# Altium footprint library Quartz Crystals.PcbLib: 53 footprints (part 2 of 4)
Each footprint in its own frame and in the unit in brackets; x right, y up, seen from the top. Pads: shape width x height; smd on the part's side, far side on the other; paste and mask are expansions set on the pad; w line width, h text height; cw(c..) or ccw(c..) is an arc to the next point about the centre after c.
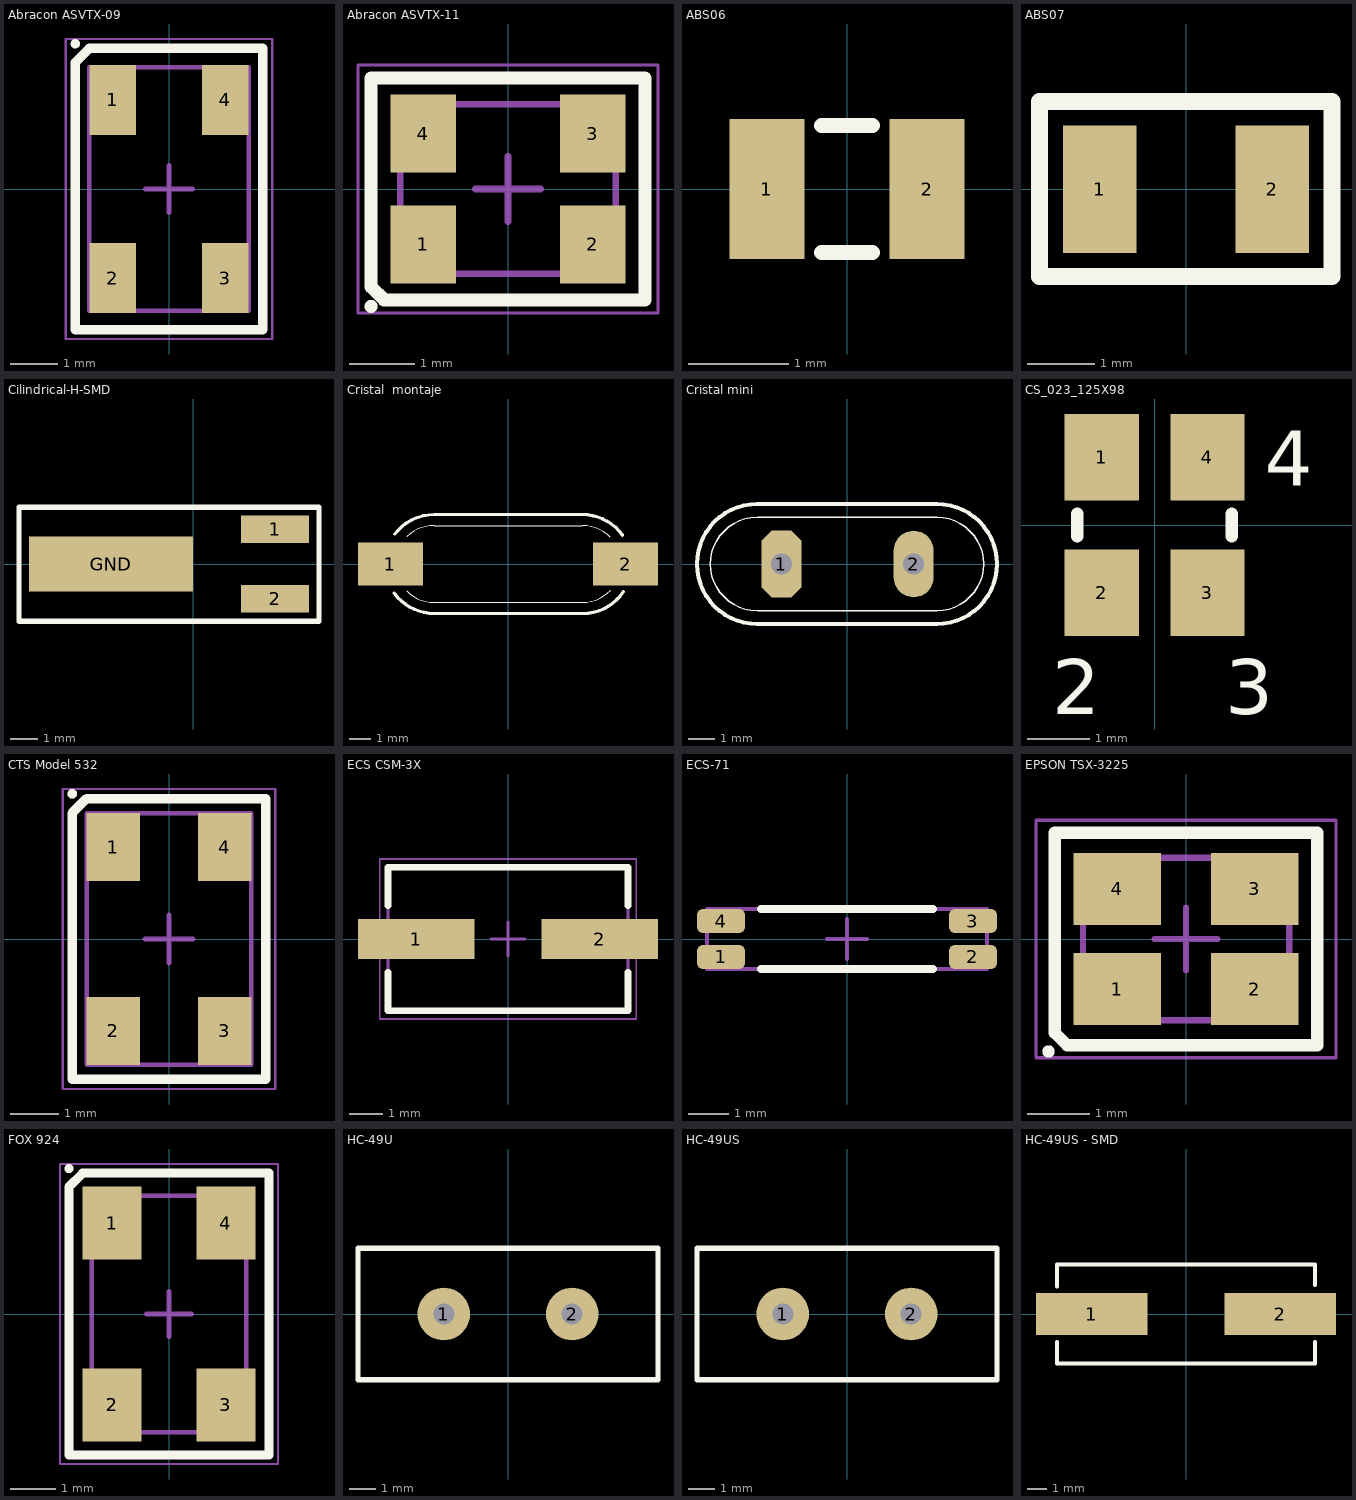
[diagram p1: the footprints below, top view; thin cyan lines are the x and y axes]

## Abracon ASVTX-09 [mm] "XO, 4-Leads, Body 5.00x3.20mm, Pitch 3.70mm, IPC Medium Density"
height 1.5
pads (4):
  rect 1x1.5 smd: 1(-1.2,1.9) 2(-1.2,-1.9) 3(1.2,-1.9) 4(1.2,1.9)
Top Overlay:
  circle w0.1: c-2,3.1 r0.05
  lines w0.2: -2,-3 2,-3 2,3 -1.7,3 -2,2.7 -2,-3
Mechanical 13:
  lines w0.1: -1.7,-2.6 -1.7,2.6 1.7,2.6 1.7,-2.6 -1.7,-2.6
Mechanical 15:
  lines w0.05: -2.2,-3.2 -2.2,3.2 2.2,3.2 2.2,-3.2 -2.2,-3.2
  lines w0.1: -0.5,0 0.5,0 ; 0,-0.5 0,0.5
3D body "Abracon ASVTX-09.STEP": height 1.5, standoff 0, extent -1.625,-2.525 1.625,2.525

## Abracon ASVTX-11 [mm] "Crystal, 4-Leads, Body 2.50x3.20mm, Pitch 2.38mm, IPC Medium Density"
height 0.9
pads (4):
  rect 1x1.2 smd: 1(-1.3,-0.85) 2(1.3,-0.85) 3(1.3,0.85) 4(-1.3,0.85)
Top Overlay:
  circle w0.1: c-2.1,-1.8 r0.05
  lines w0.2: -2.1,-1.5 -1.9,-1.7 2.1,-1.7 2.1,1.7 -2.1,1.7 -2.1,-1.5
Mechanical 13:
  lines w0.1: -1.65,-1.3 -1.65,1.3 1.65,1.3 1.65,-1.3 -1.65,-1.3
Mechanical 15:
  lines w0.05: -2.3,-1.9 -2.3,1.9 2.3,1.9 2.3,-1.9 -2.3,-1.9
  lines w0.1: -0.5,0 0.5,0 ; 0,-0.5 0,0.5
3D body "Abracon ASVTX-11.STEP": height 0.9, standoff 0, extent -1.61,-1.26 1.61,1.26

## ABS06 [mm]
pads (2):
  rect 0.75x1.4 smd: 1(-0.8,0) 2(0.8,0)
Top Overlay:
  lines w0.152: -0.254,-0.635 0.254,-0.635 ; -0.254,0.635 0.254,0.635
3D body "User Library-ABS06.STEP": height 0.6, standoff 0, extent -1,-0.61 1,0.61

## ABS07 [mm] "HC-49US XTAL"
height 4.3
pads (2):
  rect 1.1x1.9 smd: 1(-1.29,0) 2(1.29,0)
Top Overlay:
  lines w0.254: -2.19,-1.3 2.18,-1.3 2.18,1.31 -2.19,1.31 -2.19,-1.3
3D body "ABS07.STEP": height 0.9, standoff 0.02, extent -1.6,-0.749 1.6,0.749

## Cilindrical-H-SMD [mm] "Cilindrical canned XTAL, Horizontal, SMD"
height 2
pads (3):
  rect 2.5x1 smd: 1(3,1.27) 2(3,-1.27)
  rect 6x2 smd: GND(-3,0)
Top Overlay:
  lines w0.2: -6.37,-2.09 4.61,-2.09 4.61,2.08 -6.37,2.08 -6.37,-2.09
3D body "Cilindrical.STEP": height 2.25, standoff 0.01, extent -5.4,-1.41 3.6,1.41

## Cristal  montaje [mm] "Cristal de cuarzo de montaje superficial"
pads (2):
  rect 3x2 smd: 1(-5.45,0) 2(5.425,0)
Top Overlay:
  lines w0.051: -4.702,-1.241 ccw(c-3.429,0) -3.429,-1.778 3.429,-1.778 ccw(c3.429,0) 4.733,-1.208 ; -4.687,1.257 cw(c-3.429,0) -3.429,1.778 3.429,1.778 cw(c3.429,0) 4.717,1.226
  lines w0.152: -5.274,-1.349 ccw(c-3.429,0) -3.429,-2.286 3.46,-2.286 ccw(c3.46,-0.057) 5.318,-1.288 ; -5.244,1.39 cw(c-3.429,0) -3.429,2.286 3.429,2.286 cw(c3.429,0) 5.285,1.335
3D body "CRISTAL DE MONTAJEhcm49.STEP": height 4.24, standoff 0, extent -6.075,-2.375 6.325,2.455

## Cristal mini [mm] "Cristal de cuarzo empaque pequeño"
pads (2):
  oct 1.524x2.54 hole 0.8: 1(-2.5,0)
  oval 1.524x2.54 hole 0.8: 2(2.54,0)
Top Overlay:
  lines w0.051: -3.429,-1.778 cw(c-3.429,0) -3.429,1.778 3.429,1.778 cw(c3.429,0) 3.429,-1.778 -3.429,-1.778
  lines w0.152: -3.429,-2.286 cw(c-3.429,0) -3.429,2.286 3.429,2.286 cw(c3.429,0) 3.429,-2.286 -3.429,-2.286
3D body "SW3dPS-HP49US.STEP": height 3.5, standoff -4, extent -5.625,-2.35 5.725,2.3

## CS_023_125X98 [mil] "ABM8-166-114.285MHZ-T"
pads (4):
  rect 47x55 smd paste-27.5: 1(-33.5,43) 2(-33.5,-43) 3(33.5,-43) 4(33.5,43)
Top Overlay:
  lines w8: -49,-7 -49,7 ; 49,-7 49,7
  text "2" at -65,-120 h35
  text "3" at 45,-120 h35
  text "4" at 70,25 h35
3D body "User Library-ABM8.step": height 29.57, standoff -0.39, extent -49.22,-62.99 49.21,63

## CTS Model 532 [mm] "XO, 4-Leads, Body 5.00x3.20mm, Pitch 3.70mm, IPC Medium Density"
height 1.2
pads (4):
  rect 1.1x1.4 smd: 1(-1.15,1.9) 2(-1.15,-1.9) 3(1.15,-1.9) 4(1.15,1.9)
Top Overlay:
  circle w0.1: c-2,3 r0.05
  lines w0.2: -2,-2.9 -2,2.6 -1.7,2.9 2,2.9 2,-2.9 -2,-2.9
Mechanical 13:
  lines w0.1: -1.7,-2.6 1.7,-2.6 1.7,2.6 -1.7,2.6 -1.7,-2.6
Mechanical 15:
  lines w0.05: -2.2,-3.1 2.2,-3.1 2.2,3.1 -2.2,3.1 -2.2,-3.1
  lines w0.1: -0.5,0 0.5,0 ; 0,-0.5 0,0.5
3D body "CTS 532.STEP": height 1.2, standoff 0, extent -1.625,-2.525 1.625,2.525

## ECS CSM-3X [mm] "Crystal, 2-Leads, Body 4.10x7.00mm, Pitch 5.00mm, IPC Medium Density"
height 2.3
pads (2):
  rect 3.5x1.2 smd: 1(-2.75,0) 2(2.75,0)
Top Overlay:
  lines w0.2: -3.6,-1 -3.6,-2.15 3.6,-2.15 3.6,-1 ; -3.6,1 -3.6,2.15 3.6,2.15 3.6,1
Mechanical 13:
  lines w0.1: -3.6,-2.15 -3.6,2.15 3.6,2.15 3.6,-2.15 -3.6,-2.15
Mechanical 15:
  lines w0.05: -3.85,-2.4 -3.85,2.4 3.85,2.4 3.85,-2.4 -3.85,-2.4
  lines w0.1: -0.5,0 0.5,0 ; 0,-0.5 0,0.5
3D body "ECS CSM-3X.STEP": height 2.3, standoff 0, extent -3.8,-2.05 3.8,2.05

## ECS-71 [mm]
pads (4):
  rrect50% 1.2x0.6 smd: 1(-3.15,-0.45) 2(3.15,-0.45) 3(3.15,0.45) 4(-3.15,0.45)
Top Overlay:
  lines w0.2: -2.15,-0.75 2.15,-0.75 ; -2.15,0.75 2.15,0.75
Mechanical 13:
  lines w0.1: -3.5,-0.75 3.5,-0.75 3.5,0.75 -3.5,0.75 -3.5,-0.75
Mechanical 15:
  lines w0.1: -0.5,0 0.5,0 ; 0,-0.5 0,0.5
3D body: height 1.41, standoff 1.39, extent 1.617,-0.465 2.676,0.536
3D body: height 1.41, standoff 1.39, extent -2.76,-0.49 -1.701,0.511
3D body: height 0.3, standoff 0, extent 3.162,-0.676 3.553,-0.396
3D body: height 0.3, standoff 0, extent 3.162,0.389 3.553,0.668
3D body: height 0.3, standoff 0, extent -3.574,-0.681 -3.183,-0.401
3D body: height 0.3, standoff 0, extent -3.589,0.389 -3.198,0.668
3D body: height 1.4, standoff 0, extent -3.556,-0.749 3.414,0.737

## EPSON TSX-3225 [mm] "Crystal, 4-Leads, Body 2.50x3.20mm, Pitch 2.20mm, IPC Medium Density"
height 0.6
pads (4):
  rect 1.4x1.15 smd: 1(-1.1,-0.8) 2(1.1,-0.8) 3(1.1,0.8) 4(-1.1,0.8)
Top Overlay:
  circle w0.1: c-2.2,-1.8 r0.05
  lines w0.2: -2.1,-1.5 -2.1,1.7 2.1,1.7 2.1,-1.7 -1.1,-1.7 -1.9,-1.7 -2.1,-1.5
Mechanical 13:
  lines w0.1: -1.65,-1.3 -1.65,1.3 1.65,1.3 1.65,-1.3 -1.65,-1.3
Mechanical 15:
  lines w0.05: -2.4,-1.9 -2.4,1.9 2.4,1.9 2.4,-1.9 -2.4,-1.9
  lines w0.1: -0.5,0 0.5,0 ; 0,-0.5 0,0.5
3D body "Epson TSX-3225.STEP": height 0.6, standoff 0, extent -1.61,-1.26 1.61,1.26

## FOX 924 [mm] "XO, 4-Leads, Body 5.00x3.20mm, Pitch 3.70mm, IPC Medium Density"
height 1.5
pads (4):
  rect 1.3x1.6 smd: 1(-1.25,2) 2(-1.25,-2) 3(1.25,-2) 4(1.25,2)
Top Overlay:
  circle w0.1: c-2.2,3.2 r0.05
  lines w0.2: -2.2,-3.1 2.2,-3.1 2.2,3.1 -1.9,3.1 -2.2,2.8 -2.2,-3.1
Mechanical 13:
  lines w0.1: -1.7,-2.6 -1.7,2.6 1.7,2.6 1.7,-2.6 -1.7,-2.6
Mechanical 15:
  lines w0.05: -2.4,-3.3 -2.4,3.3 2.4,3.3 2.4,-3.3 -2.4,-3.3
  lines w0.1: -0.5,0 0.5,0 ; 0,-0.5 0,0.5
3D body "FOX924.STEP": height 1.5, standoff 0, extent -1.625,-2.525 1.625,2.525

## HC-49U [mm] "HC-49U XTAL"
height 13.49
pads (2):
  round 2 hole 0.8: 1(-2.44,0) 2(2.44,0)
Top Overlay:
  lines w0.2: -5.7,-2.5 -5.7,2.5 5.7,2.5 5.7,-2.5 -5.7,-2.5
3D body "HC-49U.STEP": height 13.49, standoff -2.99, extent -5.525,-2.325 5.525,2.325

## HC-49US [mm] "HC-49US XTAL"
height 3.5
pads (2):
  round 2 hole 0.8: 1(-2.44,0) 2(2.44,0)
Top Overlay:
  lines w0.2: -5.7,-2.5 5.7,-2.5 5.7,2.5 -5.7,2.5 -5.7,-2.5
3D body "HC-49US.STEP": height 3.51, standoff -2.99, extent -5.525,-2.325 5.525,2.325

## HC-49US - SMD [mm] "HC-49US XTAL"
height 4.3
pads (2):
  rect 5.6x2.1 smd: 1(-4.75,0) 2(4.75,0)
Top Overlay:
  lines w0.2: -6.5,-1.4 -6.5,-2.5 6.5,-2.5 6.5,-1.41 ; -6.5,1.39 -6.5,2.5 6.5,2.5 6.5,1.45
3D body "HC-49US-SMD.STEP": height 4.25, standoff 0, extent -6.35,-2.4 6.35,2.4